# Altium integrated library Magnetics$.IntLib: 159 symbols
Pins are listed as number, name and electrical type; pins without a type are passive.

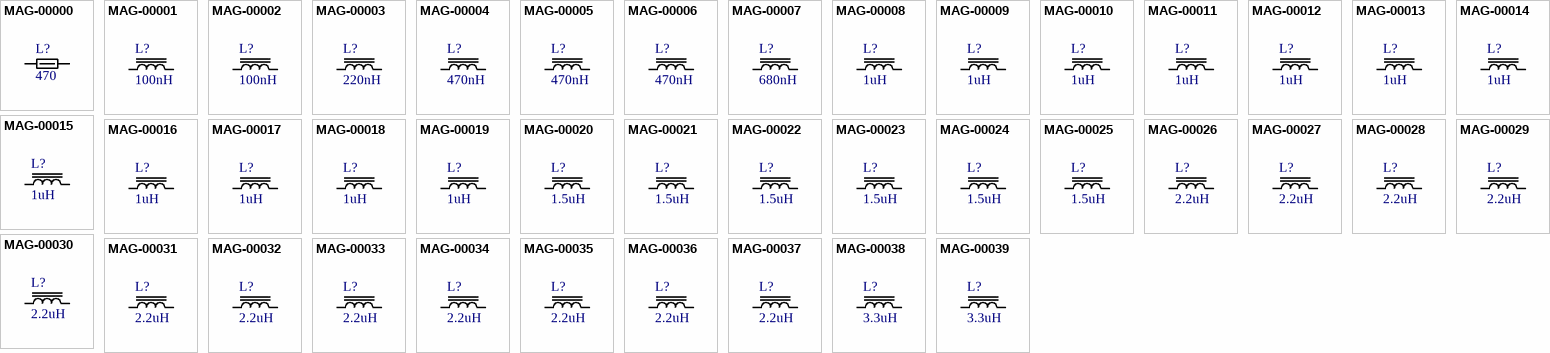
[diagram p0: symbols MAG-00000 to MAG-00039]

## MAG-00000
designator L?, comment 470
Fe Bead, 470 @ 100MHz, 0603; Part Number: MAG-00000; Manufacturer: Samsung; Manufacturer PN: CIC10P471NC; Impedance: 470; Test Freq: 100MHz; Cost: 0.1
footprint chip_0603
pins: 1, 2

## MAG-00001
designator L?, comment 100nH
Ind, 100nH, 20%, 1.15A, 0603; Part Number: MAG-00001; Manufacturer: TDK; Manufacturer PN: MLZ2012DR10DT000; DCR: 91 mOhm; Inductance: 100nH; Tolerance: 20%; Current Rating: 1.15A
footprint chip_0805
pins: 1, 2

## MAG-00002
designator L?, comment 100nH
Ind, 100nH, 20%, 850mA, 0805; Part Number: MAG-00002; Manufacturer: TDK; Manufacturer PN: MLZ1608DR10DT000; DCR: 182 mOhm; Inductance: 100nH; Tolerance: 20%; Current Rating: 850mA
footprint chip_0603
pins: 1, 2

## MAG-00003
designator L?, comment 220nH
Ind, 220nH, 20%, 600mA, 0603; Part Number: MAG-00003; Manufacturer: TDK; Manufacturer PN: MLZ1608DR22DT000; DCR: 351 mOhm; Inductance: 220nH; Tolerance: 20%; Current Rating: 600mA
footprint chip_0603
pins: 1, 2

## MAG-00004
designator L?, comment 470nH
Ind, 470nH, 20%, 500mA, 0603; Part Number: MAG-00004; Manufacturer: TDK; Manufacturer PN: MLZ1005MR47WT000; DCR: 260 mOhm; Inductance: 470nH; Tolerance: 20%; Current Rating: 500mA
footprint chip_0402
pins: 1, 2

## MAG-00005
designator L?, comment 470nH
Ind, 470nH, 20%, 500mA, 0402; Part Number: MAG-00005; Manufacturer: TDK; Manufacturer PN: MLZ1608DR47DT000; DCR: 546 mOhm; Inductance: 470nH; Tolerance: 20%; Current Rating: 500mA
footprint chip_0603
pins: 1, 2

## MAG-00006
designator L?, comment 470nH
Ind, 470nH, 20%, 700mA, 0603; Part Number: MAG-00006; Manufacturer: TDK; Manufacturer PN: MLZ2012DR47DTD25; DCR: 234 mOhm; Inductance: 470nH; Tolerance: 20%; Current Rating: 700mA
footprint chip_0805
pins: 1, 2

## MAG-00007
designator L?, comment 680nH
Ind, 680nH, 20%, 450mA, 0805; Part Number: MAG-00007; Manufacturer: TDK; Manufacturer PN: MLZ1005MR68WT000; DCR: 390 mOhm; Inductance: 680nH; Tolerance: 20%; Current Rating: 450mA
footprint chip_0402
pins: 1, 2

## MAG-00008
designator L?, comment 1uH
Ind, 1uH, 20%, 1.15A, 0402; Part Number: MAG-00008; Manufacturer: TDK; Manufacturer PN: MLZ2012N1R0LT000; DCR: 78 mOhm; Inductance: 1uH; Tolerance: 20%; Current Rating: 1.15A
footprint chip_0805
pins: 1, 2

## MAG-00009
designator L?, comment 1uH
Ind, 1uH, 20%, 900mA, 0805; Part Number: MAG-00009; Manufacturer: TDK; Manufacturer PN: MLZ2012A1R0M; DCR: 100 mOhm; Inductance: 1uH; Tolerance: 20%; Current Rating: 900mA
footprint chip_0805
pins: 1, 2

## MAG-00010
designator L?, comment 1uH
Ind, 1uH, 20%, 900mA, 0805; Part Number: MAG-00010; Manufacturer: TDK; Manufacturer PN: MLZ2012A1R0WT000; DCR: 130 mOhm; Inductance: 1uH; Tolerance: 20%; Current Rating: 900mA
footprint chip_0805
pins: 1, 2

## MAG-00011
designator L?, comment 1uH
Ind, 1uH, 20%, 600mA, 0805; Part Number: MAG-00011; Manufacturer: TDK; Manufacturer PN: MLZ1608A1R0M; DCR: 150 mOhm; Inductance: 1uH; Tolerance: 20%; Current Rating: 600mA
footprint chip_0603
pins: 1, 2

## MAG-00012
designator L?, comment 1uH
Ind, 1uH, 20%, 700mA, 0603; Part Number: MAG-00012; Manufacturer: TDK; Manufacturer PN: MLZ1608N1R0LT000; DCR: 143 mOhm; Inductance: 1uH; Tolerance: 20%; Current Rating: 700mA
footprint chip_0603
pins: 1, 2

## MAG-00013
designator L?, comment 1uH
Ind, 1uH, 20%, 800mA, 0603; Part Number: MAG-00013; Manufacturer: TDK; Manufacturer PN: MLZ2012M1R0HT000; DCR: 130 mOhm; Inductance: 1uH; Tolerance: 20%; Current Rating: 800mA
footprint chip_0805
pins: 1, 2

## MAG-00014
designator L?, comment 1uH
Ind, 1uH, 20%, 450mA, 0805; Part Number: MAG-00014; Manufacturer: TDK; Manufacturer PN: MLZ1005M1R0WT000; DCR: 455 mOhm; Inductance: 1uH; Tolerance: 20%; Current Rating: 450mA
footprint chip_0402
pins: 1, 2

## MAG-00015
designator L?, comment 1uH
Ind, 1uH, 20%, 700mA, 0402; Part Number: MAG-00015; Manufacturer: TDK; Manufacturer PN: MLZ1608N1R0LTD25; DCR: 143 mOhm; Inductance: 1uH; Tolerance: 20%; Current Rating: 700mA
footprint chip_0603
pins: 1, 2

## MAG-00016
designator L?, comment 1uH
Ind, 1uH, 20%, 800mA, 0603; Part Number: MAG-00016; Manufacturer: TDK; Manufacturer PN: MLZ2012M1R0HTD25; DCR: 130 mOhm; Inductance: 1uH; Tolerance: 20%; Current Rating: 800mA
footprint chip_0805
pins: 1, 2

## MAG-00017
designator L?, comment 1uH
Ind, 1uH, 20%, 600mA, 0805; Part Number: MAG-00017; Manufacturer: TDK; Manufacturer PN: MLZ1608A1R0WT000; DCR: 195 mOhm; Inductance: 1uH; Tolerance: 20%; Current Rating: 600mA
footprint chip_0603
pins: 1, 2

## MAG-00018
designator L?, comment 1uH
Ind, 1uH, 20%, 1.15A, 0603; Part Number: MAG-00018; Manufacturer: TDK; Manufacturer PN: MLZ2012N1R0LTD25; DCR: 78 mOhm; Inductance: 1uH; Tolerance: 20%; Current Rating: 1.15A
footprint chip_0805
pins: 1, 2

## MAG-00019
designator L?, comment 1uH
Ind, 1uH, 20%, 900mA, 0805; Part Number: MAG-00019; Manufacturer: TDK; Manufacturer PN: MLZ2012A1R0WTD25; DCR: 130 mOhm; Inductance: 1uH; Tolerance: 20%; Current Rating: 900mA
footprint chip_0805
pins: 1, 2

## MAG-00020
designator L?, comment 1.5uH
Ind, 1.5uH, 20%, 750mA, 0805; Part Number: MAG-00020; Manufacturer: TDK; Manufacturer PN: MLZ2012A1R5WT000; DCR: 169 mOhm; Inductance: 1.5uH; Tolerance: 20%; Current Rating: 750mA
footprint chip_0805
pins: 1, 2

## MAG-00021
designator L?, comment 1.5uH
Ind, 1.5uH, 20%, 900mA, 0805; Part Number: MAG-00021; Manufacturer: TDK; Manufacturer PN: MLZ2012N1R5LT000; DCR: 130 mOhm; Inductance: 1.5uH; Tolerance: 20%; Current Rating: 900mA
footprint chip_0805
pins: 1, 2

## MAG-00022
designator L?, comment 1.5uH
Ind, 1.5uH, 20%, 700mA, 0805; Part Number: MAG-00022; Manufacturer: TDK; Manufacturer PN: MLZ2012M1R5HT000; DCR: 182 mOhm; Inductance: 1.5uH; Tolerance: 20%; Current Rating: 700mA
footprint chip_0805
pins: 1, 2

## MAG-00023
designator L?, comment 1.5uH
Ind, 1.5uH, 20%, 750mA, 0805; Part Number: MAG-00023; Manufacturer: TDK; Manufacturer PN: MLZ2012A1R5WTD25; DCR: 169 mOhm; Inductance: 1.5uH; Tolerance: 20%; Current Rating: 750mA
footprint chip_0805
pins: 1, 2

## MAG-00024
designator L?, comment 1.5uH
Ind, 1.5uH, 20%, 350mA, 0805; Part Number: MAG-00024; Manufacturer: TDK; Manufacturer PN: MLZ1005M1R5WT000; DCR: 650 mOhm; Inductance: 1.5uH; Tolerance: 20%; Current Rating: 350mA
footprint chip_0402
pins: 1, 2

## MAG-00025
designator L?, comment 1.5uH
Ind, 1.5uH, 20%, 900mA, 0402; Part Number: MAG-00025; Manufacturer: TDK; Manufacturer PN: MLZ2012N1R5LTD25; DCR: 130 mOhm; Inductance: 1.5uH; Tolerance: 20%; Current Rating: 900mA
footprint chip_0805
pins: 1, 2

## MAG-00026
designator L?, comment 2.2uH
Ind, 2.2uH, 20%, 350mA, 0805; Part Number: MAG-00026; Manufacturer: TDK; Manufacturer PN: MLZ1005M2R2WT000; DCR: 715 mOhm; Inductance: 2.2uH; Tolerance: 20%; Current Rating: 350mA
footprint chip_0402
pins: 1, 2

## MAG-00027
designator L?, comment 2.2uH
Ind, 2.2uH, 20%, 650mA, 0402; Part Number: MAG-00027; Manufacturer: TDK; Manufacturer PN: MLZ2012A2R2M; DCR: 150 mOhm; Inductance: 2.2uH; Tolerance: 20%; Current Rating: 650mA
footprint chip_0805
pins: 1, 2

## MAG-00028
designator L?, comment 2.2uH
Ind, 2.2uH, 20%, 500mA, 0805; Part Number: MAG-00028; Manufacturer: TDK; Manufacturer PN: MLZ1608A2R2M; DCR: 250 mOhm; Inductance: 2.2uH; Tolerance: 20%; Current Rating: 500mA
footprint chip_0603
pins: 1, 2

## MAG-00029
designator L?, comment 2.2uH
Ind, 2.2uH, 20%, 800mA, 0603; Part Number: MAG-00029; Manufacturer: TDK; Manufacturer PN: MLZ2012N2R2LT000; DCR: 156 mOhm; Inductance: 2.2uH; Tolerance: 20%; Current Rating: 800mA
footprint chip_0805
pins: 1, 2

## MAG-00030
designator L?, comment 2.2uH
Ind, 2.2uH, 20%, 500mA, 0805; Part Number: MAG-00030; Manufacturer: TDK; Manufacturer PN: MLZ1608N2R2LT000; DCR: 234 mOhm; Inductance: 2.2uH; Tolerance: 20%; Current Rating: 500mA
footprint chip_0603
pins: 1, 2

## MAG-00031
designator L?, comment 2.2uH
Ind, 2.2uH, 20%, 500mA, 0603; Part Number: MAG-00031; Manufacturer: TDK; Manufacturer PN: MLZ1608N2R2LTD25; DCR: 234 mOhm; Inductance: 2.2uH; Tolerance: 20%; Current Rating: 500mA
footprint chip_0603
pins: 1, 2

## MAG-00032
designator L?, comment 2.2uH
Ind, 2.2uH, 20%, 650mA, 0603; Part Number: MAG-00032; Manufacturer: TDK; Manufacturer PN: MLZ2012A2R2WTD25; DCR: 195 mOhm; Inductance: 2.2uH; Tolerance: 20%; Current Rating: 650mA
footprint chip_0805
pins: 1, 2

## MAG-00033
designator L?, comment 2.2uH
Ind, 2.2uH, 20%, 650mA, 0805; Part Number: MAG-00033; Manufacturer: TDK; Manufacturer PN: MLZ2012A2R2WT000; DCR: 195 mOhm; Inductance: 2.2uH; Tolerance: 20%; Current Rating: 650mA
footprint chip_0805
pins: 1, 2

## MAG-00034
designator L?, comment 2.2uH
Ind, 2.2uH, 20%, 600mA, 0805; Part Number: MAG-00034; Manufacturer: TDK; Manufacturer PN: MLZ2012M2R2HT000; DCR: 208 mOhm; Inductance: 2.2uH; Tolerance: 20%; Current Rating: 600mA
footprint chip_0805
pins: 1, 2

## MAG-00035
designator L?, comment 2.2uH
Ind, 2.2uH, 20%, 800mA, 0805; Part Number: MAG-00035; Manufacturer: TDK; Manufacturer PN: MLZ2012N2R2LTD25; DCR: 156 mOhm; Inductance: 2.2uH; Tolerance: 20%; Current Rating: 800mA
footprint chip_0805
pins: 1, 2

## MAG-00036
designator L?, comment 2.2uH
Ind, 2.2uH, 20%, 600mA, 0805; Part Number: MAG-00036; Manufacturer: TDK; Manufacturer PN: MLZ2012M2R2HTD25; DCR: 208 mOhm; Inductance: 2.2uH; Tolerance: 20%; Current Rating: 600mA
footprint chip_0805
pins: 1, 2

## MAG-00037
designator L?, comment 2.2uH
Ind, 2.2uH, 20%, 500mA, 0805; Part Number: MAG-00037; Manufacturer: TDK; Manufacturer PN: MLZ1608A2R2WT000; DCR: 325 mOhm; Inductance: 2.2uH; Tolerance: 20%; Current Rating: 500mA
footprint chip_0603
pins: 1, 2

## MAG-00038
designator L?, comment 3.3uH
Ind, 3.3uH, 20%, 450mA, 0603; Part Number: MAG-00038; Manufacturer: TDK; Manufacturer PN: MLZ2012A3R3WT000; DCR: 442 mOhm; Inductance: 3.3uH; Tolerance: 20%; Current Rating: 450mA
footprint chip_0805
pins: 1, 2

## MAG-00039
designator L?, comment 3.3uH
Ind, 3.3uH, 20%, 750mA, 0805; Part Number: MAG-00039; Manufacturer: TDK; Manufacturer PN: MLZ2012N3R3LT000; DCR: 195 mOhm; Inductance: 3.3uH; Tolerance: 20%; Current Rating: 750mA
footprint chip_0805
pins: 1, 2

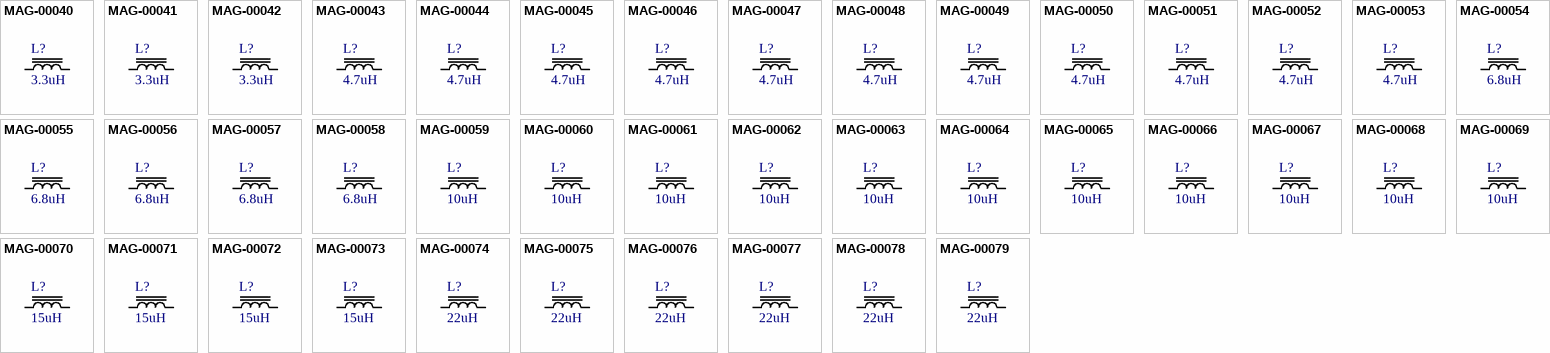
[diagram p1: symbols MAG-00040 to MAG-00079]

## MAG-00040
designator L?, comment 3.3uH
Ind, 3.3uH, 20%, 500mA, 0805; Part Number: MAG-00040; Manufacturer: TDK; Manufacturer PN: MLZ2012M3R3HT000; DCR: 260 mOhm; Inductance: 3.3uH; Tolerance: 20%; Current Rating: 500mA
footprint chip_0805
pins: 1, 2

## MAG-00041
designator L?, comment 3.3uH
Ind, 3.3uH, 20%, 450mA, 0805; Part Number: MAG-00041; Manufacturer: TDK; Manufacturer PN: MLZ2012A3R3WTD25; DCR: 442 mOhm; Inductance: 3.3uH; Tolerance: 20%; Current Rating: 450mA
footprint chip_0805
pins: 1, 2

## MAG-00042
designator L?, comment 3.3uH
Ind, 3.3uH, 20%, 750mA, 0805; Part Number: MAG-00042; Manufacturer: TDK; Manufacturer PN: MLZ2012N3R3LTD25; DCR: 195 mOhm; Inductance: 3.3uH; Tolerance: 20%; Current Rating: 750mA
footprint chip_0805
pins: 1, 2

## MAG-00043
designator L?, comment 4.7uH
Ind, 4.7uH, 20%, 350mA, 0805; Part Number: MAG-00043; Manufacturer: TDK; Manufacturer PN: MLZ1608M4R7WT000; DCR: 650 mOhm; Inductance: 4.7uH; Tolerance: 20%; Current Rating: 350mA
footprint chip_0603
pins: 1, 2

## MAG-00044
designator L?, comment 4.7uH
Ind, 4.7uH, 20%, 80mA, 0603; Part Number: MAG-00044; Manufacturer: TDK; Manufacturer PN: MLZ2012E4R7M; DCR: 300 mOhm; Inductance: 4.7uH; Tolerance: 20%; Current Rating: 80mA
footprint chip_0805
pins: 1, 2

## MAG-00045
designator L?, comment 4.7uH
Ind, 4.7uH, 20%, 500mA, 0805; Part Number: MAG-00045; Manufacturer: TDK; Manufacturer PN: MLZ2012M4R7WT000; DCR: 390 mOhm; Inductance: 4.7uH; Tolerance: 20%; Current Rating: 500mA
footprint chip_0805
pins: 1, 2

## MAG-00046
designator L?, comment 4.7uH
Ind, 4.7uH, 20%, 60mA, 0805; Part Number: MAG-00046; Manufacturer: TDK; Manufacturer PN: MLZ1608E4R7M; DCR: 650 mOhm; Inductance: 4.7uH; Tolerance: 20%; Current Rating: 60mA
footprint chip_0603
pins: 1, 2

## MAG-00047
designator L?, comment 4.7uH
Ind, 4.7uH, 20%, 600mA, 0603; Part Number: MAG-00047; Manufacturer: TDK; Manufacturer PN: MLZ2012N4R7LT000; DCR: 234 mOhm; Inductance: 4.7uH; Tolerance: 20%; Current Rating: 600mA
footprint chip_0805
pins: 1, 2

## MAG-00048
designator L?, comment 4.7uH
Ind, 4.7uH, 20%, 400mA, 0805; Part Number: MAG-00048; Manufacturer: TDK; Manufacturer PN: MLZ1608N4R7LT000; DCR: 416 mOhm; Inductance: 4.7uH; Tolerance: 20%; Current Rating: 400mA
footprint chip_0603
pins: 1, 2

## MAG-00049
designator L?, comment 4.7uH
Ind, 4.7uH, 20%, 400mA, 0603; Part Number: MAG-00049; Manufacturer: TDK; Manufacturer PN: MLZ2012M4R7HT000; DCR: 442 mOhm; Inductance: 4.7uH; Tolerance: 20%; Current Rating: 400mA
footprint chip_0805
pins: 1, 2

## MAG-00050
designator L?, comment 4.7uH
Ind, 4.7uH, 20%, 600mA, 0805; Part Number: MAG-00050; Manufacturer: TDK; Manufacturer PN: MLZ2012N4R7LTD25; DCR: 234 mOhm; Inductance: 4.7uH; Tolerance: 20%; Current Rating: 600mA
footprint chip_0805
pins: 1, 2

## MAG-00051
designator L?, comment 4.7uH
Ind, 4.7uH, 20%, 500mA, 0805; Part Number: MAG-00051; Manufacturer: TDK; Manufacturer PN: MLZ2012M4R7WTD25; DCR: 390 mOhm; Inductance: 4.7uH; Tolerance: 20%; Current Rating: 500mA
footprint chip_0805
pins: 1, 2

## MAG-00052
designator L?, comment 4.7uH
Ind, 4.7uH, 20%, 400mA, 0805; Part Number: MAG-00052; Manufacturer: TDK; Manufacturer PN: MLZ1608N4R7LTD25; DCR: 416 mOhm; Inductance: 4.7uH; Tolerance: 20%; Current Rating: 400mA
footprint chip_0603
pins: 1, 2

## MAG-00053
designator L?, comment 4.7uH
Ind, 4.7uH, 20%, 400mA, 0603; Part Number: MAG-00053; Manufacturer: TDK; Manufacturer PN: MLZ2012M4R7HTD25; DCR: 442 mOhm; Inductance: 4.7uH; Tolerance: 20%; Current Rating: 400mA
footprint chip_0805
pins: 1, 2

## MAG-00054
designator L?, comment 6.8uH
Ind, 6.8uH, 20%, 550mA, 0805; Part Number: MAG-00054; Manufacturer: TDK; Manufacturer PN: MLZ2012N6R8LT000; DCR: 325 mOhm; Inductance: 6.8uH; Tolerance: 20%; Current Rating: 550mA
footprint chip_0805
pins: 1, 2

## MAG-00055
designator L?, comment 6.8uH
Ind, 6.8uH, 20%, 350mA, 0805; Part Number: MAG-00055; Manufacturer: TDK; Manufacturer PN: MLZ2012M6R8WT000; DCR: 520 mOhm; Inductance: 6.8uH; Tolerance: 20%; Current Rating: 350mA
footprint chip_0805
pins: 1, 2

## MAG-00056
designator L?, comment 6.8uH
Ind, 6.8uH, 20%, 550mA, 0805; Part Number: MAG-00056; Manufacturer: TDK; Manufacturer PN: MLZ2012N6R8LTD25; DCR: 325 mOhm; Inductance: 6.8uH; Tolerance: 20%; Current Rating: 550mA
footprint chip_0805
pins: 1, 2

## MAG-00057
designator L?, comment 6.8uH
Ind, 6.8uH, 20%, 400mA, 0805; Part Number: MAG-00057; Manufacturer: TDK; Manufacturer PN: MLZ2012M6R8WTD25; DCR: 520 mOhm; Inductance: 6.8uH; Tolerance: 20%; Current Rating: 400mA
footprint chip_0805
pins: 1, 2

## MAG-00058
designator L?, comment 6.8uH
Ind, 6.8uH, 20%, 350mA, 0805; Part Number: MAG-00058; Manufacturer: TDK; Manufacturer PN: MLZ2012M6R8HT000; DCR: 520 mOhm; Inductance: 6.8uH; Tolerance: 20%; Current Rating: 350mA
footprint chip_0805
pins: 1, 2

## MAG-00059
designator L?, comment 10uH
Ind, 10uH, 20%, 350mA, 0805; Part Number: MAG-00059; Manufacturer: TDK; Manufacturer PN: MLZ2012M100WT000; DCR: 611 mOhm; Inductance: 10uH; Tolerance: 20%; Current Rating: 350mA
footprint chip_0805
pins: 1, 2

## MAG-00060
designator L?, comment 10uH
Ind, 10uH, 20%, 500mA, 0805; Part Number: MAG-00060; Manufacturer: TDK; Manufacturer PN: MLZ2012N100LT000; DCR: 390 mOhm; Inductance: 10uH; Tolerance: 20%; Current Rating: 500mA
footprint chip_0805
pins: 1, 2

## MAG-00061
designator L?, comment 10uH
Ind, 10uH, 20%, 300mA, 0805; Part Number: MAG-00061; Manufacturer: TDK; Manufacturer PN: MLZ1608N100LT000; DCR: 780 mOhm; Inductance: 10uH; Tolerance: 20%; Current Rating: 300mA
footprint chip_0603
pins: 1, 2

## MAG-00062
designator L?, comment 10uH
Ind, 10uH, 20%, 250mA, 0603; Part Number: MAG-00062; Manufacturer: TDK; Manufacturer PN: MLZ1608M100WT000; DCR: 1.365 Ohm; Inductance: 10uH; Tolerance: 20%; Current Rating: 250mA
footprint chip_0603
pins: 1, 2

## MAG-00063
designator L?, comment 10uH
Ind, 10uH, 20%, 300mA, 0603; Part Number: MAG-00063; Manufacturer: TDK; Manufacturer PN: MLZ2012M100HT000; DCR: 884 mOhm; Inductance: 10uH; Tolerance: 20%; Current Rating: 300mA
footprint chip_0805
pins: 1, 2

## MAG-00064
designator L?, comment 10uH
Ind, 10uH, 20%, 40mA, 0805; Part Number: MAG-00064; Manufacturer: TDK; Manufacturer PN: MLZ1608E100M; DCR: 900 mOhm; Inductance: 10uH; Tolerance: 20%; Current Rating: 40mA
footprint chip_0603
pins: 1, 2

## MAG-00065
designator L?, comment 10uH
Ind, 10uH, 20%, 60mA, 0603; Part Number: MAG-00065; Manufacturer: TDK; Manufacturer PN: MLZ2012E100M; DCR: 400 mOhm; Inductance: 10uH; Tolerance: 20%; Current Rating: 60mA
footprint chip_0805
pins: 1, 2

## MAG-00066
designator L?, comment 10uH
Ind, 10uH, 20%, 500mA, 0805; Part Number: MAG-00066; Manufacturer: TDK; Manufacturer PN: MLZ2012N100LTD25; DCR: 390 mOhm; Inductance: 10uH; Tolerance: 20%; Current Rating: 500mA
footprint chip_0805
pins: 1, 2

## MAG-00067
designator L?, comment 10uH
Ind, 10uH, 20%, 300mA, 0805; Part Number: MAG-00067; Manufacturer: TDK; Manufacturer PN: MLZ2012M100HTD25; DCR: 884 mOhm; Inductance: 10uH; Tolerance: 20%; Current Rating: 300mA
footprint chip_0805
pins: 1, 2

## MAG-00068
designator L?, comment 10uH
Ind, 10uH, 20%, 350mA, 0805; Part Number: MAG-00068; Manufacturer: TDK; Manufacturer PN: MLZ2012M100WTD25; DCR: 611 mOhm; Inductance: 10uH; Tolerance: 20%; Current Rating: 350mA
footprint chip_0805
pins: 1, 2

## MAG-00069
designator L?, comment 10uH
Ind, 10uH, 20%, 300mA, 0805; Part Number: MAG-00069; Manufacturer: TDK; Manufacturer PN: MLZ1608N100LTD25; DCR: 780 mOhm; Inductance: 10uH; Tolerance: 20%; Current Rating: 300mA
footprint chip_0603
pins: 1, 2

## MAG-00070
designator L?, comment 15uH
Ind, 15uH, 20%, 250mA, 0603; Part Number: MAG-00070; Manufacturer: TDK; Manufacturer PN: MLZ2012M150WT000; DCR: 1.235 Ohm; Inductance: 15uH; Tolerance: 20%; Current Rating: 250mA
footprint chip_0805
pins: 1, 2

## MAG-00071
designator L?, comment 15uH
Ind, 15uH, 20%, 350mA, 0805; Part Number: MAG-00071; Manufacturer: TDK; Manufacturer PN: MLZ2012N150LT000; DCR: 611 mOhm; Inductance: 15uH; Tolerance: 20%; Current Rating: 350mA
footprint chip_0805
pins: 1, 2

## MAG-00072
designator L?, comment 15uH
Ind, 15uH, 20%, 250mA, 0805; Part Number: MAG-00072; Manufacturer: TDK; Manufacturer PN: MLZ2012M150WTD25; DCR: 1.235 Ohm; Inductance: 15uH; Tolerance: 20%; Current Rating: 250mA
footprint chip_0805
pins: 1, 2

## MAG-00073
designator L?, comment 15uH
Ind, 15uH, 20%, 350mA, 0805; Part Number: MAG-00073; Manufacturer: TDK; Manufacturer PN: MLZ2012N150LTD25; DCR: 611 mOhm; Inductance: 15uH; Tolerance: 20%; Current Rating: 350mA
footprint chip_0805
pins: 1, 2

## MAG-00074
designator L?, comment 22uH
Ind, 22uH, 20%, 220mA, 0805; Part Number: MAG-00074; Manufacturer: TDK; Manufacturer PN: MLZ2012P220WT000; DCR: 1.625 Ohm; Inductance: 22uH; Tolerance: 20%; Current Rating: 220mA
footprint chip_0805
pins: 1, 2

## MAG-00075
designator L?, comment 22uH
Ind, 22uH, 20%, 300mA, 0805; Part Number: MAG-00075; Manufacturer: TDK; Manufacturer PN: MLZ2012N220LT000; DCR: 871 mOhm; Inductance: 22uH; Tolerance: 20%; Current Rating: 300mA
footprint chip_0805
pins: 1, 2

## MAG-00076
designator L?, comment 22uH
Ind, 22uH, 20%, 220mA, 0805; Part Number: MAG-00076; Manufacturer: TDK; Manufacturer PN: MLZ2012M220WT000; DCR: 2.6 Ohm; Inductance: 22uH; Tolerance: 20%; Current Rating: 220mA
footprint chip_0805
pins: 1, 2

## MAG-00077
designator L?, comment 22uH
Ind, 22uH, 20%, 300mA, 0805; Part Number: MAG-00077; Manufacturer: TDK; Manufacturer PN: MLZ1608N220LT000; DCR: 2.145 Ohm; Inductance: 22uH; Tolerance: 20%; Current Rating: 300mA
footprint chip_0603
pins: 1, 2

## MAG-00078
designator L?, comment 22uH
Ind, 22uH, 20%, 300mA, 0603; Part Number: MAG-00078; Manufacturer: TDK; Manufacturer PN: MLZ2012N220LTD25; DCR: 871 mOhm; Inductance: 22uH; Tolerance: 20%; Current Rating: 300mA
footprint chip_0805
pins: 1, 2

## MAG-00079
designator L?, comment 22uH
Ind, 22uH, 20%, 220mA, 0805; Part Number: MAG-00079; Manufacturer: TDK; Manufacturer PN: MLZ2012M220WTD25; DCR: 2.6 Ohm; Inductance: 22uH; Tolerance: 20%; Current Rating: 220mA
footprint chip_0805
pins: 1, 2

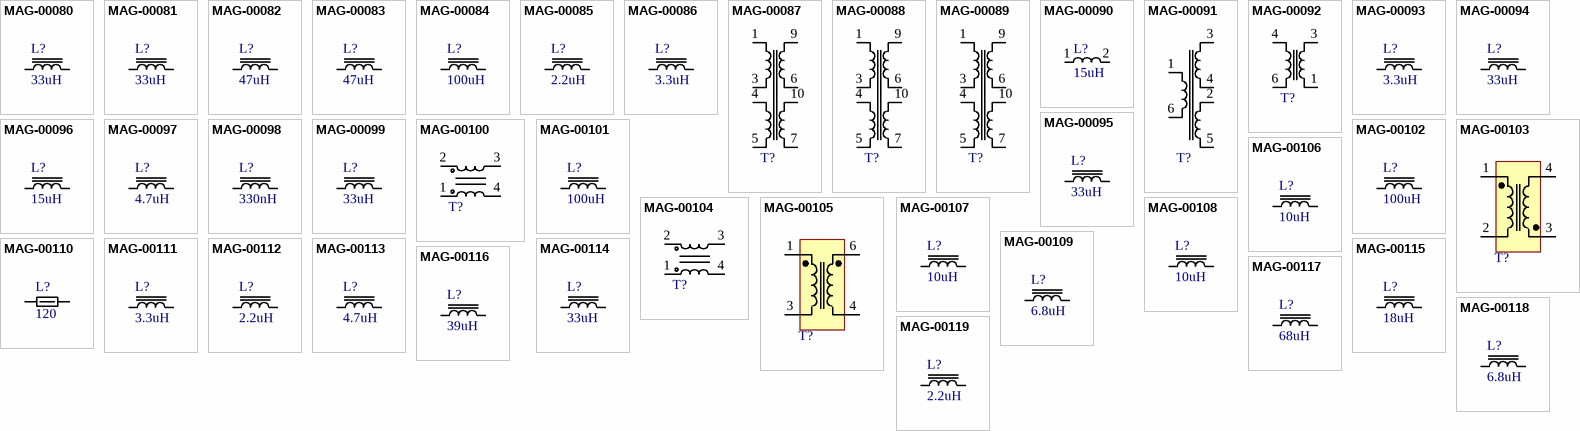
[diagram p2: symbols MAG-00080 to MAG-00119]

## MAG-00080
designator L?, comment 33uH
Ind, 33uH, 20%, 190mA, 0805; Part Number: MAG-00080; Manufacturer: TDK; Manufacturer PN: MLZ2012M330WT000; DCR: 3.38 Ohm; Inductance: 33uH; Tolerance: 20%; Current Rating: 190mA
footprint chip_0805
pins: 1, 2

## MAG-00081
designator L?, comment 33uH
Ind, 33uH, 20%, 190mA, 0805; Part Number: MAG-00081; Manufacturer: TDK; Manufacturer PN: MLZ2012M330WTD25; DCR: 3.38 Ohm; Inductance: 33uH; Tolerance: 20%; Current Rating: 190mA
footprint chip_0805
pins: 1, 2

## MAG-00082
designator L?, comment 47uH
Ind, 47uH, 20%, 170mA, 0805; Part Number: MAG-00082; Manufacturer: TDK; Manufacturer PN: MLZ2012M470WT000; DCR: 4.81 Ohm; Inductance: 47uH; Tolerance: 20%; Current Rating: 170mA
footprint chip_0805
pins: 1, 2

## MAG-00083
designator L?, comment 47uH
Ind, 47uH, 20%, 170mA, 0805; Part Number: MAG-00083; Manufacturer: TDK; Manufacturer PN: MLZ2012M470WTD25; DCR: 4.81 Ohm; Inductance: 47uH; Tolerance: 20%; Current Rating: 170mA
footprint chip_0805
pins: 1, 2

## MAG-00084
designator L?, comment 100uH
Ind, 100uH, 20%, 140mA, 0805; Part Number: MAG-00084; Manufacturer: TDK; Manufacturer PN: MLZ2012N101LT000; DCR: 4.55 Ohm; Inductance: 100uH; Tolerance: 20%; Current Rating: 140mA
footprint chip_0805
pins: 1, 2

## MAG-00085
designator L?, comment 2.2uH
Ind, 2.2uH, 20%, 55.5A, Nonstandard; Part Number: MAG-00085; Manufacturer: Eaton; Manufacturer PN: HC3-2R2-R; DCR: 0.7 mOhm; Inductance: 2.2uH; Tolerance: 20%; Current Rating: 55.5A
footprint ind_hc3
pins: 1, 2

## MAG-00086
designator L?, comment 3.3uH
Ind, 3.3uH, 20%, 70A, Nonstandard; Part Number: MAG-00086; Manufacturer: Standex-Meder; Manufacturer PN: PQ3218-3R3-70-T; DCR: 1.1 mOhm; Inductance: 3.3uH; Tolerance: 20%; Current Rating: 70A; Cost: 9.07
footprint PQ3218‐3R3‐70‐T
pins: 1, 2

## MAG-00087
designator T?, comment xfmr_1  (value not drawn)
Xfmr, PA3855.004NL; Part Number: MAG-00087; Manufacturer: Pulse Electronics; Inductance: 21uH; Tolerance: 0.1; DCR: 32 mOhm; Manufacturer PN: PA3855.004NL
footprint PA3855
pins: 1, 3, 4, 5, 6, 7, 9, 10

## MAG-00088
designator T?, comment xfmr_1  (value not drawn)
Xfmr, PA3855.005NL; Part Number: MAG-00088; Manufacturer: Pulse Electronics; Inductance: 21uH; Tolerance: 0.1; DCR: 32 mOhm; Manufacturer PN: PA3855.005NL
footprint PA3855
pins: 1, 3, 4, 5, 6, 7, 9, 10

## MAG-00089
designator T?, comment xfmr_1  (value not drawn)
Xfmr, PA3856.006NL; Part Number: MAG-00089; Manufacturer: Pulse Electronics; Inductance: 128uH; Tolerance: 0.15; DCR: 17.6 mOhm; Manufacturer PN: PA3856.006NL
footprint PA3855
pins: 1, 3, 4, 5, 6, 7, 9, 10

## MAG-00090
designator L?, comment 15uH
Ind, 15uH, 0.2, 6.5A, 7447709150; Part Number: MAG-00090; Manufacturer: Wurth; Tolerance: 0.2; DCR: 26 mOhm; Inductance: 15uH; Current Rating: 6.5A; Manufacturer PN: 7447709150; Cost: 2.41
footprint 7447709150
pins: 1, 2

## MAG-00091
designator T?, comment xfmr_2  (value not drawn)
Gate Drive Xfmr, 250mA, TDK EP5 1:1:1; Part Number: MAG-00091; Manufacturer PN: B82804A0264A210; Inductance: 264uH; DCR: 1.5 Ohm; Current Rating: 250mA; Manufacturer: TDK
footprint TDK_EP5
pins: 1, 2, 3, 4, 5, 6

## MAG-00092
designator T?, comment xfmr_3  (value not drawn)
Gate Drive Xfmr, 350mA, TDK EP5 1:1; Part Number: MAG-00092; Manufacturer PN: B82804A0354A110; Inductance: 350uH; DCR: 0.65 Ohm; Current Rating: 350mA; Manufacturer: TDK
footprint TDK_EP5
pins: 1, 3, 4, 6

## MAG-00093
designator L?, comment 3.3uH
Ind, 3.3uH, 20%, 6.8A, EP5; Part Number: MAG-00093; Manufacturer: TDK; Manufacturer PN: SPM6530T-3R3M; DCR: 29.7 mOhm; Inductance: 3.3uH; Tolerance: 20%; Current Rating: 6.8A; Cost: 1.41; Weight: 0.7
footprint TDK_SPM6530
pins: 1, 2

## MAG-00094
designator L?, comment 33uH
Ind, 33uH, 20%, 20.2A, Nonstandard; Part Number: MAG-00094; Manufacturer: Wurth; Manufacturer PN: 74437529203330; DCR: 6.9 mOhm; Inductance: 33uH; Tolerance: 20%; Current Rating: 20.2A; Cost: 8.85
footprint WURTH_74437529203330
pins: 1, 2

## MAG-00095
designator L?, comment 33uH
Ind, 33uH, 10%, 20A, Nonstandard; Part Number: MAG-00095; Manufacturer: ABRACON; Manufacturer PN: AIRD-03-330K; DCR: 17mOhm; Inductance: 33uH; Tolerance: 10%; Current Rating: 20A; Cost: 6.08
footprint AIRD-03-330K
pins: 1, 2

## MAG-00096
designator L?, comment 15uH
Ind, 15uH, 0.0024, 30A, 7443641500; Part Number: MAG-00096; Manufacturer: Wurth; Tolerance: 15%; DCR: 2.4mOhm; Inductance: 15uH; Current Rating: 30A; Manufacturer PN: 7443641500; Cost: 9.53
footprint WURTH_7443641500
pins: 1, 2

## MAG-00097
designator L?, comment 4.7uH
Ind, 4.7uH, 0.0024, 30A, 7443640470; Part Number: MAG-00097; Manufacturer: Wurth; Tolerance: 15%; DCR: 2.4mOhm; Inductance: 4.7uH; Current Rating: 30A; Manufacturer PN: 7443640470; Cost: 9.53
footprint WURTH_7443641500
pins: 1, 2

## MAG-00098
designator L?, comment 330nH
Ind, 330nH, 0.0024, 29.5A,; Part Number: MAG-00098; Manufacturer: Vishay Dale; Manufacturer PN: IHLP3232DZERR33M01; Tolerance: 20%; DCR: 2.4mOhm; Inductance: 330nH; Current Rating: 29.5A; Cost: 1.65; Distributor Link: https://www.digikey.com/en/products/detail/vishay-dale/IHLP3232DZERR33M01/2657475?s=N4IgTCBcDaIJIAkAyAFAzGDARAWgUQCUC00BZABgEYQBdAXyA
footprint VISHAY_IHLP3232DZERR33M01
pins: 1, 2

## MAG-00099
designator L?, comment 33uH
Ind, 33uH, 0.552 Ohm, 700mA; Part Number: MAG-00099; Manufacturer: Bourns; Manufacturer PN: SRN4018-330M; Tolerance: 20%; DCR: 552mOhm; Inductance: 33uH; Current Rating: 700mA; Cost: 0.46
footprint SRN4018
pins: 1, 2

## MAG-00100
designator T?, comment cmc_0  (value not drawn)
Common Mode Choke, 1mH, 0.02 Ohm, 10A; Part Number: MAG-00100; Manufacturer: Kemet; Manufacturer PN: SC-10-100; DCR: 20mOhm; Inductance: 1mH; Current Rating: 10A; Cost: 5.5
footprint KEMET_CMC_SC-10-100
pins: 1, 2, 3, 4

## MAG-00101
designator L?, comment 100uH
Ind, 100uH, 15%, 7A, 0.037 Ohm; Part Number: MAG-00101; Manufacturer: Bourns; Manufacturer PN: 2312-V-RC; DCR: 37mOhm; Inductance: 100uH; Tolerance: 15%; Current Rating: 7A; Cost: 3.99
footprint BOURNS_2300
pins: 1, 2

## MAG-00102
designator L?, comment 100uH
Ind, 100uH, 20%, 2.5A, 0.11 Ohm; Part Number: MAG-00102; Manufacturer: Wurth; Manufacturer PN: 7447709101; DCR: 110mOhm; Inductance: 100uH; Tolerance: 20%; Current Rating: 2.5A; Cost: 2.41; Weight: 7
footprint WURTH_7447709101
pins: 1, 2

## MAG-00103
designator T?, comment xfmr_4  (value not drawn)
Pulse Xfmr, 2.5mH, 1A, 2.2kV isolation; Part Number: MAG-00103; Manufacturer: Schurter; Manufacturer PN: ILR-11-0001; Inductance: 2.5mH; Current Rating: 1A; Cost: 4.62
footprint SCHURTER_ILR
pins: 1, 2, 3, 4

## MAG-00104
designator T?, comment cmc_0  (value not drawn)
Common Mode Choke, 2.6mH 0.1 Ohm 2.2A; Part Number: MAG-00104; Manufacturer: Kemet; Manufacturer PN: SSR10HS-22026; DCR: 100mOhm; Inductance: 2.6mH; Current Rating: 2.2A; Cost: 1.97
footprint KEMET-SSR10HS-22026
pins: 1, 2, 3, 4

## MAG-00105
designator T?, comment xfmr_5  (value not drawn)
Pulse Xfmr, 7.75mH, 28VuS, 2kV isolation; Part Number: MAG-00105; Manufacturer: Murata; Manufacturer PN: DA103JC; Inductance: 7.75mH; Cost: 1.57
footprint DA100J
pins: 1, 2 NC hidden, 3, 4, 5 NC hidden, 6

## MAG-00106
designator L?, comment 10uH
Ind, 10uH, 20%, 5.2A (9A sat.), 0.0599 Ohm; Part Number: MAG-00106; Manufacturer: Vishay Dale; Manufacturer PN: IHLP3232DZER100M01; DCR: 59.9mOhm; Inductance: 10uH; Tolerance: 20%; Current Rating: 5.2A; Cost: 1.4; Distributor Link: https://www.digikey.com/en/products/detail/vishay-dale/IHLP3232DZER100M01/2657466
footprint VISHAY_IHLP3232DZ
pins: 1, 2

## MAG-00107
designator L?, comment 10uH
Ind, 10uH, 10A (15.5A sat.), 20%, 0.0165 Ohm; Part Number: MAG-00107; Manufacturer: Bourns; Manufacturer PN: SRP1265A-100M; DCR: 16.5mOhm; Inductance: 10uH; Tolerance: 20%; Current Rating: 10A; Cost: 1.68
footprint BOURNS_SRP1265A
pins: 1, 2

## MAG-00108
designator L?, comment 10uH
Ind, 10uH, 15A (21.5A sat.), 20%, 0.0069 Ohm; Part Number: MAG-00108; Manufacturer: Wurth; Manufacturer PN: 74435561100; DCR: 6.9mOhm; Inductance: 10uH; Tolerance: 20%; Current Rating: 15A; Cost: 5.35
footprint WURTH_74435561100
pins: 1, 2

## MAG-00109
designator L?, comment 6.8uH
Ind, 6.8uH, 36A (32A sat.), 20%, 0.0031 Ohm; Part Number: MAG-00109; Manufacturer: Bourns; Manufacturer PN: SRP2313AA-6R8M; DCR: 3.1mOhm; Inductance: 6.8uH; Tolerance: 20%; Current Rating: 36A; Cost: 8.91
footprint BOURNS_SRP2313AA
pins: 1, 2

## MAG-00110
designator L?, comment 120
Fe Bead, 120 @ 100MHz, 3A, 0805; Part Number: MAG-00110; Manufacturer: Wurth; Manufacturer PN: 742792023; DCR: 30mOhm; Current Rating: 3A; Impedance: 120; Test Freq: 100MHz; Cost: 0.22
footprint chip_0805
pins: 1, 2

## MAG-00111
designator L?, comment 3.3uH
Ind, 3.3uH, 3.3A (3.8A sat.), 0.027 Ohm; Part Number: MAG-00111; Manufacturer: Bourns; Manufacturer PN: SRN5040-3R3M; Tolerance: 20%; DCR: 27mOhm; Inductance: 3.3uH; Current Rating: 3.3A; Cost: 0.46; Distributor Link: https://www.digikey.com/en/products/detail/bourns-inc/SRN5040-3R3M/4867711
footprint BOURNS_SRN5040
pins: 1, 2

## MAG-00112
designator L?, comment 2.2uH
Ind, 2.2uH, 3.5A (4.6A sat.), 0.027 Ohm; Part Number: MAG-00112; Manufacturer: Bourns; Manufacturer PN: SRN5040-2R2Y; Tolerance: 30%; DCR: 21mOhm; Inductance: 2.2uH; Current Rating: 3.5A
footprint BOURNS_SRN5040
pins: 1, 2

## MAG-00113
designator L?, comment 4.7uH
Ind, 4.7uH, 3.1A (3.3A sat.), 0.035 Ohm; Part Number: MAG-00113; Manufacturer: Bourns; Manufacturer PN: SRN5040-4R7M; Tolerance: 20%; DCR: 35mOhm; Inductance: 4.7uH; Current Rating: 3.1A
footprint BOURNS_SRN5040
pins: 1, 2

## MAG-00114
designator L?, comment 33uH
Ind, 33uH, 2.68A (3A sat.), 0.057 Ohm; Part Number: MAG-00114; Manufacturer: Wurth; Manufacturer PN: 744771133; Tolerance: 20%; DCR: 57mOhm; Inductance: 33uH; Current Rating: 2.68A; Cost: 2.12
footprint WURTH_74477110
pins: 1, 2

## MAG-00115
designator L?, comment 18uH
Ind, 18uH, 3.9A, 0.0392 Ohm, SMD; Part Number: MAG-00115; Manufacturer: Sumida; Manufacturer PN: CDRH127NP-180MC; Tolerance: 20%; DCR: 39.2mOhm; Inductance: 18uH; Current Rating: 3.9A; Cost: 2.02
footprint SUMIDA_CDRH127
pins: 1, 2

## MAG-00116
designator L?, comment 39uH
Ind, 39uH, 15.1A (32.3A sat.), 0.012 Ohm, THT; Part Number: MAG-00116; Manufacturer: Bourns; Manufacturer PN: 1140-390K-RC; Tolerance: 10%; DCR: 12mOhm; Inductance: 39uH; Current Rating: 15.1A; Cost: 9.56
footprint BOURNS_1140-390K-RC
pins: 1, 2

## MAG-00117
designator L?, comment 68uH
Ind, 68uH, 2.4A (2.3A sat.), 0.12 Ohm, SMD; Part Number: MAG-00117; Manufacturer: Bourns; Manufacturer PN: SRR1280-680M; Tolerance: 20%; DCR: 120mOhm; Inductance: 68uH; Current Rating: 2.4A; Cost: 1.25
footprint BOURNS_SRR1280
pins: 1, 2

## MAG-00118
designator L?, comment 6.8uH
Ind, 6.8uH, 2.3A (2.6A sat.), 0.059 Ohm, SMD; Part Number: MAG-00118; Manufacturer: Bourns; Manufacturer PN: SRN5040-6R8M; Tolerance: 20%; DCR: 59mOhm; Inductance: 6.8uH; Current Rating: 2.3A; Cost: 0.46
footprint BOURNS_SRN5040
pins: 1, 2

## MAG-00119
designator L?, comment 2.2uH
Ind, 2.2uH, 1.3A, 0.08 Ohm, SMD 1008; Part Number: MAG-00119; Manufacturer: Murata; Manufacturer PN: LQM2HPN2R2MG0L; Tolerance: 20%; DCR: 80mOhm; Inductance: 2.2uH; Current Rating: 1.3A; Cost: 0.35
footprint CHIP_1008_IND
pins: 1, 2

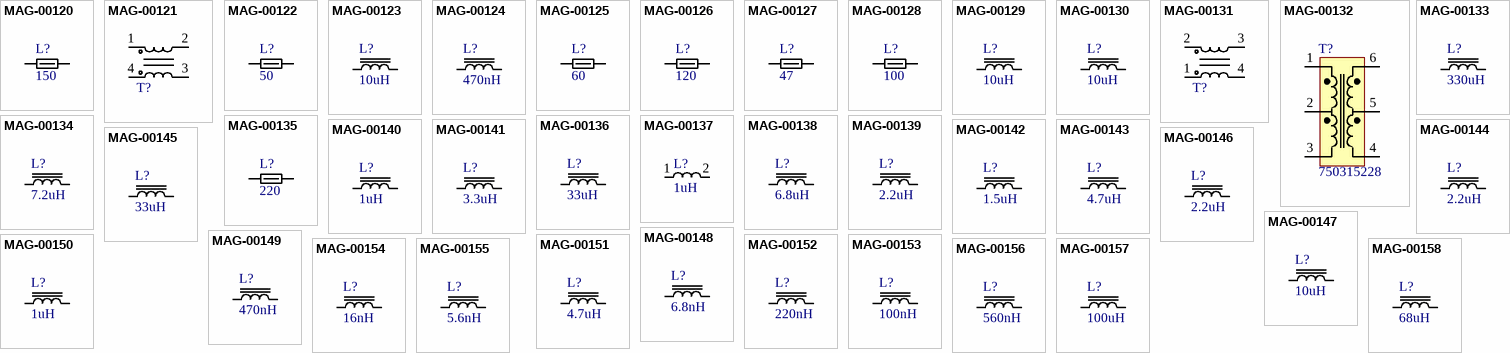
[diagram p3: symbols MAG-00120 to MAG-00158]

## MAG-00120
designator L?, comment 150
Fe Bead, 150 @ 100MHz, 800mA, 0805; Part Number: MAG-00120; Manufacturer: Murata; Manufacturer PN: BLM21AG151SN1D; DCR: 100mOhm; Current Rating: 800mA; Impedance: 150; Test Freq: 100MHz; Cost: 0.1
footprint CHIP_0805_FE
pins: 1, 2

## MAG-00121
designator T?, comment DLW21HN900SQ2L  (value not drawn)
CMC, 330mA 2-CH 90 OHM @ 100MHz SMD; Part Number: MAG-00121; Manufacturer: Murata; Impedance: 90; DCR: 350mOhm; Test Freq: 100MHz; Manufacturer PN: DLW21HN900SQ2L; Cost: 0.53
footprint MURATA_DLW21H
pins: 1, 2, 3, 4 34

## MAG-00122
designator L?, comment 50
Fe Bead, 50 @ 100MHz, 3A, 1206; Part Number: MAG-00122; Manufacturer: Wurth; Manufacturer PN: 742792114; DCR: 25mOhm; Current Rating: 3A; Impedance: 50; Test Freq: 100MHz; Cost: 0.24
footprint CHIP_1206_FE
pins: 1, 2

## MAG-00123
designator L?, comment 10uH
Ind, 10uH, 1.19A (1A sat.), 0.11 Ohm, SMD; Part Number: MAG-00123; Manufacturer: Wurth; Manufacturer PN: 744043100; Tolerance: 30%; DCR: 110mOhm; Inductance: 10uH; Current Rating: 1.19A; Cost: 1.43
footprint WURTH_744143100
pins: 1, 2

## MAG-00124
designator L?, comment 470nH
Ind, 470nH, 4A, 0.027 Ohm, 1008; Part Number: MAG-00124; Manufacturer: Murata; Manufacturer PN: DFE252012P-R47M=P2; Tolerance: 20%; Test Freq: 1MHz; DCR: 27mOhm; Inductance: 470nH; Current Rating: 4A; Cost: 0.51
footprint CHIP_1008_IND
pins: 1, 2

## MAG-00125
designator L?, comment 60
Fe Bead, 60 @ 100MH, 3A, 0805; Part Number: MAG-00125; Manufacturer: Pulse Electronics; Manufacturer PN: PE-0805PFB600ST; Test Freq: 100MHz; DCR: 25mOhm; Current Rating: 3A; Impedance: 60; Cost: 0.1; Distributor Link: https://www.digikey.com/en/products/detail/pulse-electronics-network/PE-0805PFB600ST/5050552
footprint CHIP_0805_FE
pins: 1, 2

## MAG-00126
designator L?, comment 120
Fe Bead, 120 @ 100MHz, 800mA, 0603; Part Number: MAG-00126; Manufacturer: Murata; Manufacturer PN: BLM18AG121SN1D; DCR: 180mOhm; Current Rating: 800mA; Impedance: 120; Test Freq: 100MHz; Cost: 0.1
footprint CHIP_0603_FE
pins: 1, 2

## MAG-00127
designator L?, comment 47
Fe Bead, 47 @ 100MHz, 300mA, 0603; Part Number: MAG-00127; Manufacturer: Murata; Manufacturer PN: BLM18BA470SN1D; DCR: 550mOhm; Current Rating: 300mA; Impedance: 47; Test Freq: 100MHz; Cost: 0.1
footprint CHIP_0603_FE
pins: 1, 2

## MAG-00128
designator L?, comment 100
Fe Bead, 100 @ 100MHz, 3A, 0603; Part Number: MAG-00128; Manufacturer: Murata; Manufacturer PN: BLM18KG101TN1D; DCR: 30mOhm; Current Rating: 3A; Impedance: 100; Test Freq: 100MHz; Cost: 0.1
footprint CHIP_0603_FE
pins: 1, 2

## MAG-00129
designator L?, comment 10uH
Ind, 10uH, 2.1A (2.3A sat.), 0.068 Ohm, SMD; Part Number: MAG-00129; Manufacturer: Bourns; Manufacturer PN: SRN5040-100M; Tolerance: 20%; DCR: 68mOhm; Inductance: 10uH; Current Rating: 2.1A; Cost: 0.48
footprint BOURNS_SRN5040
pins: 1, 2

## MAG-00130
designator L?, comment 10uH
Ind, 10uH, 20A, 5mOhm, THT; Part Number: MAG-00130; Manufacturer: Bourns; Manufacturer PN: 2301-H-RC; Tolerance: 15%; Inductance: 10uH; Current Rating: 20A; DCR: 5mOhm; Cost: 3.99
footprint BOURNS_2301-H-RC
pins: 1, 2

## MAG-00131
designator T?, comment cmc_0  (value not drawn)
CMC, 20A, 2-Ln, 560uH, Mains Power Filtering, THT; Part Number: MAG-00131; Manufacturer: Wurth; Manufacturer PN: S14100038; DCR: 2.8mOhm; Inductance: 560uH; Current Rating: 20A; Cost: 4.18
footprint WURTH_S14100038
pins: 1, 2, 3, 4

## MAG-00132
designator T?, comment 750315228
Xfmr, 2:1 Center-Tapped, 388uH, SMD; Part Number: MAG-00132; Manufacturer: Wurth; Current Rating: 160mA; DCR: 189mOhm; Inductance: 388uH; Manufacturer PN: 750315228; Cost: 2.4
footprint WURTH_750315228
pins: 1, 2 NC hidden, 2, 3, 4, 5 NC hidden, 5, 6

## MAG-00133
designator L?, comment 330uH
Ind, 330uH, 6.1A (11.2A sat.), 0.074 Ohm; Part Number: MAG-00133; Manufacturer: Bourns; Manufacturer PN: 1140-331K-RC; Tolerance: 10%; DCR: 74mOhm; Inductance: 330uH; Current Rating: 6.1A; Cost: 10.04
footprint BOURNS_1140-331K-RC
pins: 1, 2

## MAG-00134
designator L?, comment 7.2uH
Ind, 7.2uH, 7.9A (6A sat.), 0.0128 Ohm; Part Number: MAG-00134; Manufacturer: Wurth; Manufacturer PN: 7447798720; Tolerance: 30%; DCR: 12.8mOhm; Inductance: 7.2uH; Current Rating: 7.9A; Cost: 3.34
footprint WURTH_7447798720
pins: 1, 2

## MAG-00135
designator L?, comment 220
Fe Bead, 220 @ 100MHz, 2.2A, 0603; Part Number: MAG-00135; Manufacturer: Murata; Manufacturer PN: BLM18KG221SN1D; DCR: 50mOhm; Current Rating: 2.2A; Impedance: 220; Test Freq: 100MHz; Cost: 0.1; Distributor Link: https://www.digikey.com/en/products/detail/murata-electronics/BLM18KG221SN1D/1982763
footprint CHIP_0603_FE
pins: 1, 2

## MAG-00136
designator L?, comment 33uH
Ind, 33uH, 8A (11A sat.), 0.058 Ohm, Bourns SRP1265A; Part Number: MAG-00136; Manufacturer PN: SRP1265A-330M; Tolerance: 20%; DCR: 58mOhm; Inductance: 33uH; Current Rating: 8A; Manufacturer: Bourns; Cost: 1.88
footprint BOURNS_SRP1265A
pins: 1, 2

## MAG-00137
designator L?, comment 1uH
Ind, 1uH, 1.7A (1.1A sat.), 0.1 Ohm, 0805; Part Number: MAG-00137; Manufacturer: Murata; Manufacturer PN: LQM21PN1R0MGHL; Tolerance: 20%; DCR: 100mOhm; Inductance: 1uH; Current Rating: 1.7A; Cost: 0.32; Distributor Link: https://www.digikey.com/en/products/detail/murata-electronics/LQM21PN1R0MGHL/4864857
footprint CHIP_0805_FE
pins: 1, 2

## MAG-00138
designator L?, comment 6.8uH
Ind, 6.8uH, 35A (37.9A sat.), 1.45mOhm, EPCOS - TDK; Part Number: MAG-00138; Manufacturer PN: B82559A7682A024; Tolerance: 10%; Inductance: 6.8uH; Current Rating: 35A; DCR: 1.45mOhm; Manufacturer: EPCOS; Cost: 8.19; Distributor Link: https://www.digikey.com/en/products/detail/epcos-tdk-electronics/B82559A7682A024/13165559
footprint EPCOS_B82559AXA024
pins: 1, 2

## MAG-00139
designator L?, comment 2.2uH
Ind, 2.2uH, 2.2A (3A sat.), 84mOhm, 1008; Part Number: MAG-00139; Manufacturer: Murata; Manufacturer PN: DFE252012P-2R2M=P2; Tolerance: 20%; Inductance: 2.2uH; Current Rating: 2.2A; DCR: 84mOhm; Cost: 0.38; Distributor Link: https://www.digikey.com/en/products/detail/murata-electronics/DFE252012P-2R2M=P2/5247260
footprint CHIP_1008_IND
pins: 1, 2

## MAG-00140
designator L?, comment 1uH
Ind, 1uH, 4.3A, 42mOhm, 1008; Part Number: MAG-00140; Manufacturer: Murata; Manufacturer PN: DFE252012P-1R0M=P2; Tolerance: 20%; Inductance: 1uH; Current Rating: 4.3A; DCR: 42mOhm; Cost: 0.39; Distributor Link: https://www.digikey.com/en/products/detail/murata-electronics/DFE252012P-1R0M=P2/5247258
footprint CHIP_1008_IND
pins: 1, 2

## MAG-00141
designator L?, comment 3.3uH
Ind, 3.3uH, 2.3A, 140mOhm, 1008; Part Number: MAG-00141; Manufacturer: Murata; Manufacturer PN: DFE252012P-3R3M=P2; Tolerance: 20%; Inductance: 3.3uH; Current Rating: 2.3A; DCR: 140mOhm; Cost: 0.42; Distributor Link: https://www.digikey.com/en/products/detail/murata-electronics/DFE252012P-3R3M=P2/5247261
footprint CHIP_1008_IND
pins: 1, 2

## MAG-00142
designator L?, comment 1.5uH
Ind, 1.5uH, 3.5A, 60mOhm, 1008; Part Number: MAG-00142; Manufacturer: Murata; Manufacturer PN: DFE252012P-1R5M=P2; Tolerance: 20%; Inductance: 1.5uH; Current Rating: 3.5A; DCR: 60mOhm; Cost: 0.42; Distributor Link: https://www.digikey.com/en/products/detail/murata-electronics/DFE252012P-1R5M=P2/5247259
footprint CHIP_1008_IND
pins: 1, 2

## MAG-00143
designator L?, comment 4.7uH
Ind, 4.7uH, 1.6A (1.9A sat.), 200mOhm, 1008; Part Number: MAG-00143; Manufacturer: TDK; Manufacturer PN: TFM252012ALVA4R7MTAA; Tolerance: 20%; Inductance: 4.7uH; Current Rating: 1.6A; DCR: 200mOhm; Cost: 0.81; Distributor Link: https://www.digikey.com/en/products/detail/tdk-corporation/TFM252012ALVA4R7MTAA/9842974
footprint CHIP_1008_IND
pins: 1, 2

## MAG-00144
designator L?, comment 2.2uH
Ind, 2.2uH, 2.6A (2.8A sat.), 84mOhm, 1008; Part Number: MAG-00144; Manufacturer: TDK; Manufacturer PN: TFM252012ALMA2R2MTAA; Tolerance: 20%; Inductance: 2.2uH; Current Rating: 2.6A; DCR: 84mOhm; Cost: 0.73; Distributor Link: https://www.digikey.com/en/products/detail/tdk-corporation/TFM252012ALMA2R2MTAA/7795251
footprint CHIP_1008_IND
pins: 1, 2

## MAG-00145
designator L?, comment 33uH
Ind, 33uH, 4.9A (8.8A sat.), 59mOhm, 10.5x10mm; Part Number: MAG-00145; Manufacturer: TDK; Manufacturer PN: SPM10065VT-330M-D; Tolerance: 20%; Inductance: 33uH; Current Rating: 4.9A; DCR: 59mOhm; Cost: 2.88; Distributor Link: https://www.digikey.com/en/products/detail/tdk-corporation/SPM10065VT-330M-D/12175283
footprint TDK_SPM10065VT-330M-D
pins: 1, 2

## MAG-00146
designator L?, comment 2.2uH
Ind, 2.2uH, 700mA, 300mOhm, 0603, Murata; Part Number: MAG-00146; Manufacturer PN: LQM18PN2R2NC0L; Tolerance: 30%; Inductance: 2.2uH; Current Rating: 700mA; DCR: 300mOhm; Manufacturer: Murata; Cost: 0.3; Distributor Link: https://www.digikey.com/en/products/detail/murata-electronics/LQM18PN2R2NC0L/4905779
footprint CHIP_0603_IND
pins: 1, 2

## MAG-00147
designator L?, comment 10uH
Ind, 10uH, 50mA sat., 1.17Ohm, 0603, Murata; Part Number: MAG-00147; Manufacturer PN: LQM18FN100M00D; Tolerance: 20%; Inductance: 10uH; Current Rating: 50mA; DCR: 1.17Ohm; Manufacturer: Murata; Cost: 0.13; Distributor Link: https://www.digikey.com/en/products/detail/murata-electronics/LQM18FN100M00D/1016184
footprint CHIP_0603_IND
pins: 1, 2

## MAG-00148
designator L?, comment 6.8nH
Ind, 6.8nH, 430mA, 250mOhm, 0603, Murata; Part Number: MAG-00148; Manufacturer PN: LQG18HN6N8J00D; Tolerance: 5%; Inductance: 6.8nH; Current Rating: 430mA; DCR: 250mOhm; Manufacturer: Murata; Cost: 0.19; Distributor Link: https://www.digikey.com/en/products/detail/murata-electronics/LQG18HN6N8J00D/584317
footprint CHIP_0603_IND
pins: 1, 2

## MAG-00149
designator L?, comment 470nH
Ind, 470nH, 2.6A (3.6A sat.), 54mOhm, 0603, Murata; Part Number: MAG-00149; Manufacturer PN: DFE18SANR47MG0L; Tolerance: 20%; Inductance: 470nH; Current Rating: 2.6A; DCR: 54mOhm; Manufacturer: Murata; Cost: 0.48; Distributor Link: https://www.digikey.com/en/products/detail/murata-electronics/DFE18SANR47MG0L/7564146
footprint CHIP_0603_IND
pins: 1, 2

## MAG-00150
designator L?, comment 1uH
Ind, 1uH, 1.05A (900mA sat.), 250mOhm, 0603, Murata; Part Number: MAG-00150; Manufacturer PN: LQM18PN1R0MGHD; Tolerance: 20%; Inductance: 1uH; Current Rating: 1.05A; DCR: 250mOhm; Manufacturer: Murata; Cost: 0.28; Distributor Link: https://www.digikey.com/en/products/detail/murata-electronics/LQM18PN1R0MGHD/6799059
footprint CHIP_0603_IND
pins: 1, 2

## MAG-00151
designator L?, comment 4.7uH
Ind, 4.7uH, 80mA sat., 780mOhm, 0603, Murata; Part Number: MAG-00151; Manufacturer PN: LQM18FN4R7M00D; Tolerance: 20%; Inductance: 4.7uH; Current Rating: 80mA; DCR: 780mOhm; Manufacturer: Murata; Cost: 0.13; Distributor Link: https://www.digikey.com/en/products/detail/murata-electronics/LQM18FN4R7M00D/1016183
footprint CHIP_0603_IND
pins: 1, 2

## MAG-00152
designator L?, comment 220nH
Ind, 220nH, 1.25A, 138mOhm, 0603, Murata; Part Number: MAG-00152; Manufacturer PN: LQM18PNR22NFRL; Tolerance: 30%; Inductance: 220nH; Current Rating: 1.25A; DCR: 138mOhm; Manufacturer: Murata; Cost: 0.36; Distributor Link: https://www.digikey.com/en/products/detail/murata-electronics/LQM18PNR22NFRL/4359187
footprint CHIP_0603_IND
pins: 1, 2

## MAG-00153
designator L?, comment 100nH
Ind, 100nH, 650mA, 513mOhm, 0603, Murata; Part Number: MAG-00153; Manufacturer PN: LQM18JNR10J00D; Tolerance: 5%; Inductance: 100nH; Current Rating: 650mA; DCR: 513mOhm; Manufacturer: Murata; Cost: 0.19; Distributor Link: https://www.digikey.com/en/products/detail/murata-electronics/LQM18JNR10J00D/7564138
footprint CHIP_0603_IND
pins: 1, 2

## MAG-00154
designator L?, comment 16nH
Ind, 16nH, 1.4A, 75mOhm, 0603, Murata LQW18; Part Number: MAG-00154; Manufacturer PN: LQW18AN16NG8ZD; Tolerance: 2%; Inductance: 16nH; Current Rating: 1.4A; DCR: 75mOhm; Manufacturer: Murata; Cost: 0.27; Distributor Link: https://www.digikey.com/en/products/detail/murata-electronics/LQW18AN16NG8ZD/6799075
footprint CHIP_0603_IND
pins: 1, 2

## MAG-00155
designator L?, comment 5.6nH
Ind, 5.6nH, 430mA, 200mOhm, 0603, Murata LQG18; Part Number: MAG-00155; Manufacturer PN: LQG18HN5N6S00D; Tolerance: 5%; Inductance: 5.6nH; Current Rating: 430mA; DCR: 200mOhm; Manufacturer: Murata; Cost: 0.19; Distributor Link: https://www.digikey.com/en/products/detail/murata-electronics/LQG18HN5N6S00D/584316
footprint CHIP_0603_IND
pins: 1, 2

## MAG-00156
designator L?, comment 560nH
Ind, 560nH, 300mA, 850mOhm, 0603, Murata LQB 18; Part Number: MAG-00156; Manufacturer PN: LQB18NNR56J10D; Tolerance: 5%; Inductance: 560nH; Current Rating: 300mA; DCR: 850mOhm; Manufacturer: Murata; Cost: 0.15; Distributor Link: https://www.digikey.com/en/products/detail/murata-electronics/LQB18NNR56J10D/4905729
footprint CHIP_0603_IND
pins: 1, 2

## MAG-00157
designator L?, comment 100uH
Ind, 100uH, 2.2A, 220mOhm; Part Number: MAG-00157; Manufacturer: Wurth; Manufacturer PN: 74477020; Tolerance: 20%; Inductance: 100uH; Current Rating: 2.2A; DCR: 220mOhm; Cost: 2.25; Distributor Link: https://www.digikey.com/en/products/detail/w%C3%BCrth-elektronik/74477020/1638640
footprint WURTH_74477020
pins: 1, 2

## MAG-00158
designator L?, comment 68uH
Ind, 68uH, 540mA, 840mOhm; Part Number: MAG-00158; Manufacturer: Wurth; Manufacturer PN: 74404042680; Tolerance: 20%; Inductance: 68uH; Current Rating: 540mA; DCR: 840mOhm; Cost: 1.12; Distributor Link: https://www.digikey.com/en/products/detail/w%C3%BCrth-elektronik/74404042680/5353055
footprint WURTH_4X4
pins: 1, 2